# Altium footprint library 2.40-BGA封装.PcbLib: 20 footprints (part 1 of 2)
Each footprint in its own frame and in the unit in brackets; x right, y up, seen from the top. Pads: shape width x height; smd on the part's side, far side on the other; paste and mask are expansions set on the pad; w line width, h text height; cw(c..) or ccw(c..) is an arc to the next point about the centre after c.
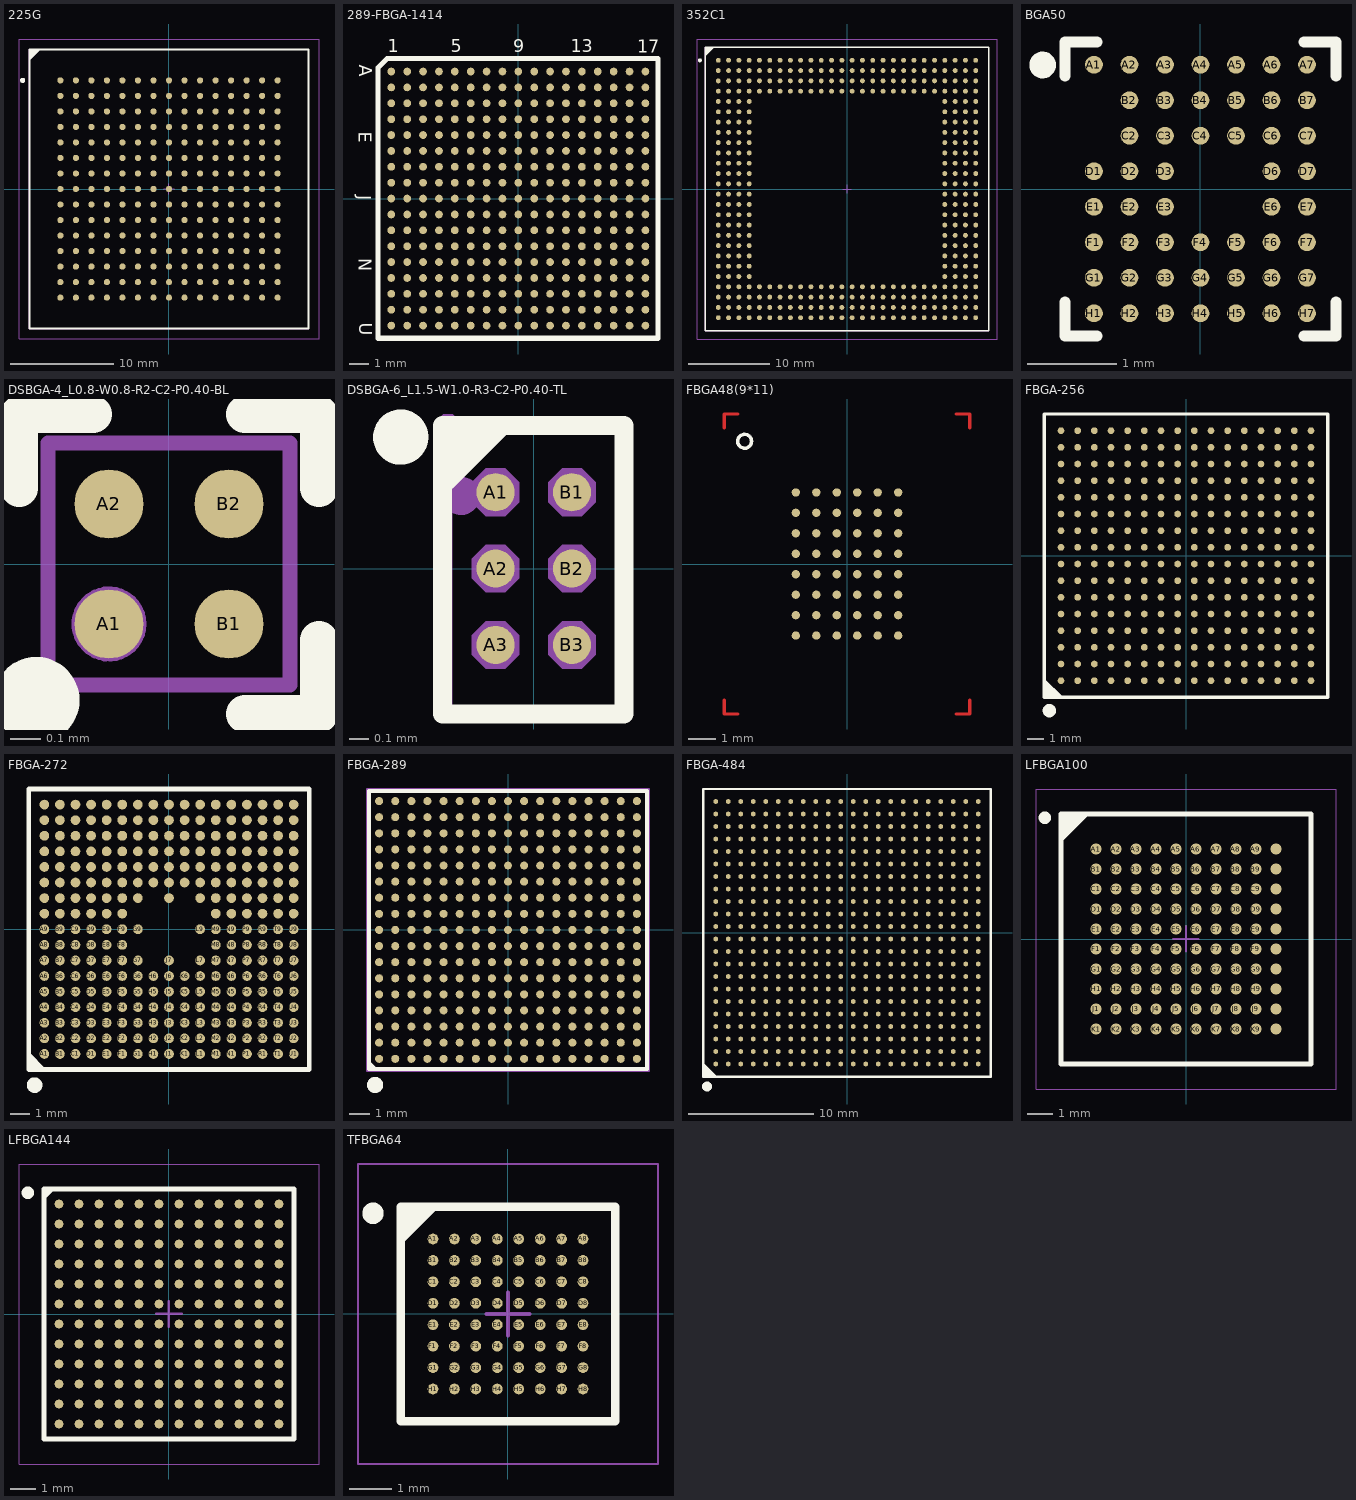
[diagram p0: the footprints below, top view; thin cyan lines are the x and y axes]

## 225G [mm] "225-Ball Ball Grid Array 1.5 mm Pitch"
height 1.53
pads (225):
  round 0.6 smd: A1(-10.5,10.5) A2(-9,10.5) A3(-7.5,10.5) A4(-6,10.5) A5(-4.5,10.5) A6(-3,10.5) A7(-1.5,10.5) A8(0,10.5) A9(1.5,10.5) A10(3,10.5) A11(4.5,10.5) A12(6,10.5) A13(7.5,10.5) A14(9,10.5) A15(10.5,10.5) B1(-10.5,9) B2(-9,9) B3(-7.5,9) B4(-6,9) B5(-4.5,9) B6(-3,9) B7(-1.5,9) B8(0,9) B9(1.5,9) B10(3,9) B11(4.5,9) B12(6,9) B13(7.5,9) B14(9,9) B15(10.5,9) C1(-10.5,7.5) C2(-9,7.5) C3(-7.5,7.5) C4(-6,7.5) C5(-4.5,7.5) C6(-3,7.5) C7(-1.5,7.5) C8(0,7.5) C9(1.5,7.5) C10(3,7.5) C11(4.5,7.5) C12(6,7.5) C13(7.5,7.5) C14(9,7.5) C15(10.5,7.5) D1(-10.5,6) D2(-9,6) D3(-7.5,6) D4(-6,6) D5(-4.5,6) D6(-3,6) D7(-1.5,6) D8(0,6) D9(1.5,6) D10(3,6) D11(4.5,6) D12(6,6) D13(7.5,6) D14(9,6) D15(10.5,6) E1(-10.5,4.5) E2(-9,4.5) E3(-7.5,4.5) E4(-6,4.5) E5(-4.5,4.5) E6(-3,4.5) E7(-1.5,4.5) E8(0,4.5) E9(1.5,4.5) E10(3,4.5) E11(4.5,4.5) E12(6,4.5) E13(7.5,4.5) E14(9,4.5) E15(10.5,4.5) F1(-10.5,3) F2(-9,3) F3(-7.5,3) F4(-6,3) F5(-4.5,3) F6(-3,3) F7(-1.5,3) F8(0,3) F9(1.5,3) F10(3,3) F11(4.5,3) F12(6,3) F13(7.5,3) F14(9,3) F15(10.5,3) G1(-10.5,1.5) G2(-9,1.5) G3(-7.5,1.5) G4(-6,1.5) G5(-4.5,1.5) G6(-3,1.5) G7(-1.5,1.5) G8(0,1.5) G9(1.5,1.5) G10(3,1.5) G11(4.5,1.5) G12(6,1.5) G13(7.5,1.5) G14(9,1.5) G15(10.5,1.5) H1(-10.5,0) H2(-9,0) H3(-7.5,0) H4(-6,0) H5(-4.5,0) H6(-3,0) H7(-1.5,0) H8(0,0) H9(1.5,0) H10(3,0) H11(4.5,0) H12(6,0) H13(7.5,0) H14(9,0) H15(10.5,0) J1(-10.5,-1.5) J2(-9,-1.5) J3(-7.5,-1.5) J4(-6,-1.5) J5(-4.5,-1.5) J6(-3,-1.5) J7(-1.5,-1.5) J8(0,-1.5) J9(1.5,-1.5) J10(3,-1.5) J11(4.5,-1.5) J12(6,-1.5) J13(7.5,-1.5) J14(9,-1.5) J15(10.5,-1.5) K1(-10.5,-3) K2(-9,-3) K3(-7.5,-3) K4(-6,-3) K5(-4.5,-3) K6(-3,-3) K7(-1.5,-3) K8(0,-3) K9(1.5,-3) K10(3,-3) K11(4.5,-3) K12(6,-3) K13(7.5,-3) K14(9,-3) K15(10.5,-3) L1(-10.5,-4.5) L2(-9,-4.5) L3(-7.5,-4.5) L4(-6,-4.5) L5(-4.5,-4.5) L6(-3,-4.5) L7(-1.5,-4.5) L8(0,-4.5) L9(1.5,-4.5) L10(3,-4.5) L11(4.5,-4.5) L12(6,-4.5) L13(7.5,-4.5) L14(9,-4.5) L15(10.5,-4.5) M1(-10.5,-6) M2(-9,-6) M3(-7.5,-6) M4(-6,-6) M5(-4.5,-6) M6(-3,-6) M7(-1.5,-6) M8(0,-6) M9(1.5,-6) M10(3,-6) M11(4.5,-6) M12(6,-6) M13(7.5,-6) M14(9,-6) M15(10.5,-6) N1(-10.5,-7.5) N2(-9,-7.5) N3(-7.5,-7.5) N4(-6,-7.5) N5(-4.5,-7.5) N6(-3,-7.5) N7(-1.5,-7.5) N8(0,-7.5) N9(1.5,-7.5) N10(3,-7.5) N11(4.5,-7.5) N12(6,-7.5) N13(7.5,-7.5) N14(9,-7.5) N15(10.5,-7.5) P1(-10.5,-9) P2(-9,-9) P3(-7.5,-9) P4(-6,-9) P5(-4.5,-9) P6(-3,-9) P7(-1.5,-9) P8(0,-9) P9(1.5,-9) P10(3,-9) P11(4.5,-9) P12(6,-9) P13(7.5,-9) P14(9,-9) P15(10.5,-9) R1(-10.5,-10.5) R2(-9,-10.5) R3(-7.5,-10.5) R4(-6,-10.5) R5(-4.5,-10.5) R6(-3,-10.5) R7(-1.5,-10.5) R8(0,-10.5) R9(1.5,-10.5) R10(3,-10.5) R11(4.5,-10.5) R12(6,-10.5) R13(7.5,-10.5) R14(9,-10.5) R15(10.5,-10.5)
Top Overlay:
  circle w0.25: c-14.15,10.5 r0.125
  region: -12.5,13.5 -13.5,12.5 -13.5,13.5
  lines w0.2: -13.5,12.5 -12.5,13.5 ; -13.5,-13.5 -13.5,13.5 13.5,13.5 13.5,-13.5 -13.5,-13.5
Mechanical 13:
  lines w0.1: -13.5,-13.5 -13.5,13.5 13.5,13.5 13.5,-13.5 -13.5,-13.5
Mechanical 15:
  lines w0.1: -0.5,0 0.5,0 ; 0,-0.5 0,0.5 ; -14.5,-14.5 -14.5,14.5 14.5,14.5 14.5,-14.5 -14.5,-14.5
3D body: height 1.53, standoff 0, extent -13.5,-13.5 13.5,13.5

## 289-FBGA-1414 [mm]
pads (289):
  round 0.39 smd: A1(-6.4,6.4) A2(-5.6,6.4) A3(-4.8,6.4) A4(-4,6.4) A5(-3.2,6.4) A6(-2.4,6.4) A7(-1.6,6.4) A8(-0.8,6.4) A9(0,6.4) A10(0.8,6.4) A11(1.6,6.4) A12(2.4,6.4) A13(3.2,6.4) A14(4,6.4) A15(4.8,6.4) A16(5.6,6.4) A17(6.4,6.4) B1(-6.4,5.6) B2(-5.6,5.6) B3(-4.8,5.6) B4(-4,5.6) B5(-3.2,5.6) B6(-2.4,5.6) B7(-1.6,5.6) B8(-0.8,5.6) B9(0,5.6) B10(0.8,5.6) B11(1.6,5.6) B12(2.4,5.6) B13(3.2,5.6) B14(4,5.6) B15(4.8,5.6) B16(5.6,5.6) B17(6.4,5.6) C1(-6.4,4.8) C2(-5.6,4.8) C3(-4.8,4.8) C4(-4,4.8) C5(-3.2,4.8) C6(-2.4,4.8) C7(-1.6,4.8) C8(-0.8,4.8) C9(0,4.8) C10(0.8,4.8) C11(1.6,4.8) C12(2.4,4.8) C13(3.2,4.8) C14(4,4.8) C15(4.8,4.8) C16(5.6,4.8) C17(6.4,4.8) D1(-6.4,4) D2(-5.6,4) D3(-4.8,4) D4(-4,4) D5(-3.2,4) D6(-2.4,4) D7(-1.6,4) D8(-0.8,4) D9(0,4) D10(0.8,4) D11(1.6,4) D12(2.4,4) D13(3.2,4) D14(4,4) D15(4.8,4) D16(5.6,4) D17(6.4,4) E1(-6.4,3.2) E2(-5.6,3.2) E3(-4.8,3.2) E4(-4,3.2) E5(-3.2,3.2) E6(-2.4,3.2) E7(-1.6,3.2) E8(-0.8,3.2) E9(0,3.2) E10(0.8,3.2) E11(1.6,3.2) E12(2.4,3.2) E13(3.2,3.2) E14(4,3.2) E15(4.8,3.2) E16(5.6,3.2) E17(6.4,3.2) F1(-6.4,2.4) F2(-5.6,2.4) F3(-4.8,2.4) F4(-4,2.4) F5(-3.2,2.4) F6(-2.4,2.4) F7(-1.6,2.4) F8(-0.8,2.4) F9(0,2.4) F10(0.8,2.4) F11(1.6,2.4) F12(2.4,2.4) F13(3.2,2.4) F14(4,2.4) F15(4.8,2.4) F16(5.6,2.4) F17(6.4,2.4) G1(-6.4,1.6) G2(-5.6,1.6) G3(-4.8,1.6) G4(-4,1.6) G5(-3.2,1.6) G6(-2.4,1.6) G7(-1.6,1.6) G8(-0.8,1.6) G9(0,1.6) G10(0.8,1.6) G11(1.6,1.6) G12(2.4,1.6) G13(3.2,1.6) G14(4,1.6) G15(4.8,1.6) G16(5.6,1.6) G17(6.4,1.6) H1(-6.4,0.8) H2(-5.6,0.8) H3(-4.8,0.8) H4(-4,0.8) H5(-3.2,0.8) H6(-2.4,0.8) H7(-1.6,0.8) H8(-0.8,0.8) H9(0,0.8) H10(0.8,0.8) H11(1.6,0.8) H12(2.4,0.8) H13(3.2,0.8) H14(4,0.8) H15(4.8,0.8) H16(5.6,0.8) H17(6.4,0.8) J1(-6.4,0) J2(-5.6,0) J3(-4.8,0) J4(-4,0) J5(-3.2,0) J6(-2.4,0) J7(-1.6,0) J8(-0.8,0) J9(0,0) J10(0.8,0) J11(1.6,0) J12(2.4,0) J13(3.2,0) J14(4,0) J15(4.8,0) J16(5.6,0) J17(6.4,0) K1(-6.4,-0.8) K2(-5.6,-0.8) K3(-4.8,-0.8) K4(-4,-0.8) K5(-3.2,-0.8) K6(-2.4,-0.8) K7(-1.6,-0.8) K8(-0.8,-0.8) K9(0,-0.8) K10(0.8,-0.8) K11(1.6,-0.8) K12(2.4,-0.8) K13(3.2,-0.8) K14(4,-0.8) K15(4.8,-0.8) K16(5.6,-0.8) K17(6.4,-0.8) L1(-6.4,-1.6) L2(-5.6,-1.6) L3(-4.8,-1.6) L4(-4,-1.6) L5(-3.2,-1.6) L6(-2.4,-1.6) L7(-1.6,-1.6) L8(-0.8,-1.6) L9(0,-1.6) L10(0.8,-1.6) L11(1.6,-1.6) L12(2.4,-1.6) L13(3.2,-1.6) L14(4,-1.6) L15(4.8,-1.6) L16(5.6,-1.6) L17(6.4,-1.6) M1(-6.4,-2.4) M2(-5.6,-2.4) M3(-4.8,-2.4) M4(-4,-2.4) M5(-3.2,-2.4) M6(-2.4,-2.4) M7(-1.6,-2.4) M8(-0.8,-2.4) M9(0,-2.4) M10(0.8,-2.4) M11(1.6,-2.4) M12(2.4,-2.4) M13(3.2,-2.4) M14(4,-2.4) M15(4.8,-2.4) M16(5.6,-2.4) M17(6.4,-2.4) N1(-6.4,-3.2) N2(-5.6,-3.2) N3(-4.8,-3.2) N4(-4,-3.2) N5(-3.2,-3.2) N6(-2.4,-3.2) N7(-1.6,-3.2) N8(-0.8,-3.2) N9(0,-3.2) N10(0.8,-3.2) N11(1.6,-3.2) N12(2.4,-3.2) N13(3.2,-3.2) N14(4,-3.2) N15(4.8,-3.2) N16(5.6,-3.2) N17(6.4,-3.2) P1(-6.4,-4) P2(-5.6,-4) P3(-4.8,-4) P4(-4,-4) P5(-3.2,-4) P6(-2.4,-4) P7(-1.6,-4) P8(-0.8,-4) P9(0,-4) P10(0.8,-4) P11(1.6,-4) P12(2.4,-4) P13(3.2,-4) P14(4,-4) P15(4.8,-4) P16(5.6,-4) P17(6.4,-4) R1(-6.4,-4.8) R2(-5.6,-4.8) R3(-4.8,-4.8) R4(-4,-4.8) R5(-3.2,-4.8) R6(-2.4,-4.8) R7(-1.6,-4.8) R8(-0.8,-4.8) R9(0,-4.8) R10(0.8,-4.8) R11(1.6,-4.8) R12(2.4,-4.8) R13(3.2,-4.8) R14(4,-4.8) R15(4.8,-4.8) R16(5.6,-4.8) R17(6.4,-4.8) T1(-6.4,-5.6) T2(-5.6,-5.6) T3(-4.8,-5.6) T4(-4,-5.6) T5(-3.2,-5.6) T6(-2.4,-5.6) T7(-1.6,-5.6) T8(-0.8,-5.6) T9(0,-5.6) T10(0.8,-5.6) T11(1.6,-5.6) T12(2.4,-5.6) T13(3.2,-5.6) T14(4,-5.6) T15(4.8,-5.6) T16(5.6,-5.6) T17(6.4,-5.6) U1(-6.4,-6.4) U2(-5.6,-6.4) U3(-4.8,-6.4) U4(-4,-6.4) U5(-3.2,-6.4) U6(-2.4,-6.4) U7(-1.6,-6.4) U8(-0.8,-6.4) U9(0,-6.4) U10(0.8,-6.4) U11(1.6,-6.4) U12(2.4,-6.4) U13(3.2,-6.4) U14(4,-6.4) U15(4.8,-6.4) U16(5.6,-6.4) U17(6.4,-6.4)
Top Overlay:
  lines w0.254: -7.062,6.324 -7.062,6.603 ; -6.452,7.06 -6.605,7.06 ; -7.062,6.603 -6.605,7.06 ; -7.062,6.603 -6.605,7.06 ; -7.062,6.603 -7.062,-7.037 7.035,-7.037 7.035,7.06 -6.605,7.06
  text "U" at -8.027,-6.249 h0.64
  text "N" at -8.053,-2.998 h0.64
  text "J" at -8.078,0.177 h0.64
  text "E" at -8.053,3.377 h0.64
  text "A" at -8.027,6.73 h0.64
  text "13" at 2.641,7.365 h0.64
  text "9" at -0.255,7.365 h0.64
  text "5" at -3.404,7.365 h0.64
  text "1" at -6.579,7.365 h0.64
  text "17" at 5.994,7.34 h0.64

## 352C1 [mm] "352-ball, 35 x 35, Enhanced, Low-profile Square Ball Grid Array Package (SBGA)"
height 1.7
pads (352):
  round 0.6 smd: A1(-15.875,15.875) A2(-14.605,15.875) A3(-13.335,15.875) A4(-12.065,15.875) A5(-10.795,15.875) A6(-9.525,15.875) A7(-8.255,15.875) A8(-6.985,15.875) A9(-5.715,15.875) A10(-4.445,15.875) A11(-3.175,15.875) A12(-1.905,15.875) A13(-0.635,15.875) A14(0.635,15.875) A15(1.905,15.875) A16(3.175,15.875) A17(4.445,15.875) A18(5.715,15.875) A19(6.985,15.875) A20(8.255,15.875) A21(9.525,15.875) A22(10.795,15.875) A23(12.065,15.875) A24(13.335,15.875) A25(14.605,15.875) A26(15.875,15.875) AA1(-15.875,-9.525) AA2(-14.605,-9.525) AA3(-13.335,-9.525) AA4(-12.065,-9.525) AA23(12.065,-9.525) AA24(13.335,-9.525) AA25(14.605,-9.525) AA26(15.875,-9.525) AB1(-15.875,-10.795) AB2(-14.605,-10.795) AB3(-13.335,-10.795) AB4(-12.065,-10.795) AB23(12.065,-10.795) AB24(13.335,-10.795) AB25(14.605,-10.795) AB26(15.875,-10.795) AC1(-15.875,-12.065) AC2(-14.605,-12.065) AC3(-13.335,-12.065) AC4(-12.065,-12.065) AC5(-10.795,-12.065) AC6(-9.525,-12.065) AC7(-8.255,-12.065) AC8(-6.985,-12.065) AC9(-5.715,-12.065) AC10(-4.445,-12.065) AC11(-3.175,-12.065) AC12(-1.905,-12.065) AC13(-0.635,-12.065) AC14(0.635,-12.065) AC15(1.905,-12.065) AC16(3.175,-12.065) AC17(4.445,-12.065) AC18(5.715,-12.065) AC19(6.985,-12.065) AC20(8.255,-12.065) AC21(9.525,-12.065) AC22(10.795,-12.065) AC23(12.065,-12.065) AC24(13.335,-12.065) AC25(14.605,-12.065) AC26(15.875,-12.065) AD1(-15.875,-13.335) AD2(-14.605,-13.335) AD3(-13.335,-13.335) AD4(-12.065,-13.335) AD5(-10.795,-13.335) AD6(-9.525,-13.335) AD7(-8.255,-13.335) AD8(-6.985,-13.335) AD9(-5.715,-13.335) AD10(-4.445,-13.335) AD11(-3.175,-13.335) AD12(-1.905,-13.335) AD13(-0.635,-13.335) AD14(0.635,-13.335) AD15(1.905,-13.335) AD16(3.175,-13.335) AD17(4.445,-13.335) AD18(5.715,-13.335) AD19(6.985,-13.335) AD20(8.255,-13.335) AD21(9.525,-13.335) AD22(10.795,-13.335) AD23(12.065,-13.335) AD24(13.335,-13.335) AD25(14.605,-13.335) AD26(15.875,-13.335) AE1(-15.875,-14.605) AE2(-14.605,-14.605) AE3(-13.335,-14.605) AE4(-12.065,-14.605) AE5(-10.795,-14.605) AE6(-9.525,-14.605) AE7(-8.255,-14.605) AE8(-6.985,-14.605) AE9(-5.715,-14.605) AE10(-4.445,-14.605) AE11(-3.175,-14.605) AE12(-1.905,-14.605) AE13(-0.635,-14.605) AE14(0.635,-14.605) AE15(1.905,-14.605) AE16(3.175,-14.605) AE17(4.445,-14.605) AE18(5.715,-14.605) AE19(6.985,-14.605) AE20(8.255,-14.605) AE21(9.525,-14.605) AE22(10.795,-14.605) AE23(12.065,-14.605) AE24(13.335,-14.605) AE25(14.605,-14.605) AE26(15.875,-14.605) AF1(-15.875,-15.875) AF2(-14.605,-15.875) AF3(-13.335,-15.875) AF4(-12.065,-15.875) AF5(-10.795,-15.875) AF6(-9.525,-15.875) AF7(-8.255,-15.875) AF8(-6.985,-15.875) AF9(-5.715,-15.875) AF10(-4.445,-15.875) AF11(-3.175,-15.875) AF12(-1.905,-15.875) AF13(-0.635,-15.875) AF14(0.635,-15.875) AF15(1.905,-15.875) AF16(3.175,-15.875) AF17(4.445,-15.875) AF18(5.715,-15.875) AF19(6.985,-15.875) AF20(8.255,-15.875) AF21(9.525,-15.875) AF22(10.795,-15.875) AF23(12.065,-15.875) AF24(13.335,-15.875) AF25(14.605,-15.875) AF26(15.875,-15.875) B1(-15.875,14.605) B2(-14.605,14.605) B3(-13.335,14.605) B4(-12.065,14.605) B5(-10.795,14.605) B6(-9.525,14.605) B7(-8.255,14.605) B8(-6.985,14.605) B9(-5.715,14.605) B10(-4.445,14.605) B11(-3.175,14.605) B12(-1.905,14.605) B13(-0.635,14.605) B14(0.635,14.605) B15(1.905,14.605) B16(3.175,14.605) B17(4.445,14.605) B18(5.715,14.605) B19(6.985,14.605) B20(8.255,14.605) B21(9.525,14.605) B22(10.795,14.605) B23(12.065,14.605) B24(13.335,14.605) B25(14.605,14.605) B26(15.875,14.605) C1(-15.875,13.335) C2(-14.605,13.335) C3(-13.335,13.335) C4(-12.065,13.335) C5(-10.795,13.335) C6(-9.525,13.335) C7(-8.255,13.335) C8(-6.985,13.335) C9(-5.715,13.335) C10(-4.445,13.335) C11(-3.175,13.335) C12(-1.905,13.335) C13(-0.635,13.335) C14(0.635,13.335) C15(1.905,13.335) C16(3.175,13.335) C17(4.445,13.335) C18(5.715,13.335) C19(6.985,13.335) C20(8.255,13.335) C21(9.525,13.335) C22(10.795,13.335) C23(12.065,13.335) C24(13.335,13.335) C25(14.605,13.335) C26(15.875,13.335) D1(-15.875,12.065) D2(-14.605,12.065) D3(-13.335,12.065) D4(-12.065,12.065) D5(-10.795,12.065) D6(-9.525,12.065) D7(-8.255,12.065) D8(-6.985,12.065) D9(-5.715,12.065) D10(-4.445,12.065) D11(-3.175,12.065) D12(-1.905,12.065) D13(-0.635,12.065) D14(0.635,12.065) D15(1.905,12.065) D16(3.175,12.065) D17(4.445,12.065) D18(5.715,12.065) D19(6.985,12.065) D20(8.255,12.065) D21(9.525,12.065) D22(10.795,12.065) D23(12.065,12.065) D24(13.335,12.065) D25(14.605,12.065) D26(15.875,12.065) E1(-15.875,10.795) E2(-14.605,10.795) E3(-13.335,10.795) E4(-12.065,10.795) E23(12.065,10.795) E24(13.335,10.795) E25(14.605,10.795) E26(15.875,10.795) F1(-15.875,9.525) F2(-14.605,9.525) F3(-13.335,9.525) F4(-12.065,9.525) F23(12.065,9.525) F24(13.335,9.525) F25(14.605,9.525) F26(15.875,9.525) G1(-15.875,8.255) G2(-14.605,8.255) G3(-13.335,8.255) G4(-12.065,8.255) G23(12.065,8.255) G24(13.335,8.255) G25(14.605,8.255) G26(15.875,8.255) H1(-15.875,6.985) H2(-14.605,6.985) H3(-13.335,6.985) H4(-12.065,6.985) H23(12.065,6.985) H24(13.335,6.985) H25(14.605,6.985) H26(15.875,6.985) J1(-15.875,5.715) J2(-14.605,5.715) J3(-13.335,5.715) J4(-12.065,5.715) J23(12.065,5.715) J24(13.335,5.715) J25(14.605,5.715) J26(15.875,5.715) K1(-15.875,4.445) K2(-14.605,4.445) K3(-13.335,4.445) K4(-12.065,4.445) K23(12.065,4.445) K24(13.335,4.445) K25(14.605,4.445) K26(15.875,4.445) L1(-15.875,3.175) L2(-14.605,3.175) L3(-13.335,3.175) L4(-12.065,3.175) L23(12.065,3.175) L24(13.335,3.175) L25(14.605,3.175) L26(15.875,3.175) M1(-15.875,1.905) M2(-14.605,1.905) M3(-13.335,1.905) M4(-12.065,1.905) M23(12.065,1.905) M24(13.335,1.905) M25(14.605,1.905) M26(15.875,1.905) N1(-15.875,0.635) N2(-14.605,0.635) N3(-13.335,0.635) N4(-12.065,0.635) N23(12.065,0.635) N24(13.335,0.635) N25(14.605,0.635) N26(15.875,0.635) P1(-15.875,-0.635) P2(-14.605,-0.635) P3(-13.335,-0.635) P4(-12.065,-0.635) P23(12.065,-0.635) P24(13.335,-0.635) P25(14.605,-0.635) P26(15.875,-0.635) R1(-15.875,-1.905) R2(-14.605,-1.905) R3(-13.335,-1.905) R4(-12.065,-1.905) R23(12.065,-1.905) R24(13.335,-1.905) R25(14.605,-1.905) R26(15.875,-1.905) T1(-15.875,-3.175) T2(-14.605,-3.175) T3(-13.335,-3.175) T4(-12.065,-3.175) T23(12.065,-3.175) T24(13.335,-3.175) T25(14.605,-3.175) T26(15.875,-3.175) U1(-15.875,-4.445) U2(-14.605,-4.445) U3(-13.335,-4.445) U4(-12.065,-4.445) U23(12.065,-4.445) U24(13.335,-4.445) U25(14.605,-4.445) U26(15.875,-4.445) V1(-15.875,-5.715) V2(-14.605,-5.715) V3(-13.335,-5.715) V4(-12.065,-5.715) V23(12.065,-5.715) V24(13.335,-5.715) V25(14.605,-5.715) V26(15.875,-5.715) W1(-15.875,-6.985) W2(-14.605,-6.985) W3(-13.335,-6.985) W4(-12.065,-6.985) W23(12.065,-6.985) W24(13.335,-6.985) W25(14.605,-6.985) W26(15.875,-6.985) Y1(-15.875,-8.255) Y2(-14.605,-8.255) Y3(-13.335,-8.255) Y4(-12.065,-8.255) Y23(12.065,-8.255) Y24(13.335,-8.255) Y25(14.605,-8.255) Y26(15.875,-8.255)
Top Overlay:
  circle w0.25: c-18.15,15.875 r0.125
  region: -16.5,17.5 -17.5,16.5 -17.5,17.5
  lines w0.2: -17.5,16.5 -16.5,17.5 ; -17.5,-17.5 -17.5,17.5 17.5,17.5 17.5,-17.5 -17.5,-17.5
Mechanical 13:
  lines w0.1: -17.5,-17.5 -17.5,17.5 17.5,17.5 17.5,-17.5 -17.5,-17.5
Mechanical 15:
  lines w0.1: -0.5,0 0.5,0 ; 0,-0.5 0,0.5 ; -18.5,-18.5 -18.5,18.5 18.5,18.5 18.5,-18.5 -18.5,-18.5
3D body: height 1.7, standoff 0, extent -17.5,-17.5 17.5,17.5

## BGA50 [mm] "N40P7X8_300X320X40"
pads (50):
  round 0.2 smd mask+0: A1(-1.2,1.4) A2(-0.8,1.4) A3(-0.4,1.4) A4(0,1.4) A5(0.4,1.4) A6(0.8,1.4) A7(1.2,1.4) B2(-0.8,1) B3(-0.4,1) B4(0,1) B5(0.4,1) B6(0.8,1) B7(1.2,1) C2(-0.8,0.6) C3(-0.4,0.6) C4(0,0.6) C5(0.4,0.6) C6(0.8,0.6) C7(1.2,0.6) D1(-1.2,0.2) D2(-0.8,0.2) D3(-0.4,0.2) D6(0.8,0.2) D7(1.2,0.2) E1(-1.2,-0.2) E2(-0.8,-0.2) E3(-0.4,-0.2) E6(0.8,-0.2) E7(1.2,-0.2) F1(-1.2,-0.6) F2(-0.8,-0.6) F3(-0.4,-0.6) F4(0,-0.6) F5(0.4,-0.6) F6(0.8,-0.6) F7(1.2,-0.6) G1(-1.2,-1) G2(-0.8,-1) G3(-0.4,-1) G4(0,-1) G5(0.4,-1) G6(0.8,-1) G7(1.2,-1) H1(-1.2,-1.4) H2(-0.8,-1.4) H3(-0.4,-1.4) H4(0,-1.4) H5(0.4,-1.4) H6(0.8,-1.4) H7(1.2,-1.4)
Top Overlay:
  circle w0.15: c-1.778,1.397 r0.075
  lines w0.127: -1.527,-1.274 -1.527,-1.655 -1.17,-1.655 ; -1.527,1.274 -1.527,1.655 -1.17,1.655 ; 1.17,-1.655 1.527,-1.655 1.527,-1.274 ; 1.17,1.655 1.527,1.655 1.527,1.274
Top Solder:
  circle w0: c-1.2,1.4 r0.17
  circle w0: c-0.8,1.4 r0.17
  circle w0: c-0.4,1.4 r0.17
  circle w0: c0,1.4 r0.17
  circle w0: c0.4,1.4 r0.17
  circle w0: c0.8,1.4 r0.17
  circle w0: c1.2,1.4 r0.17
  circle w0: c-1.2,-1.4 r0.17
  circle w0: c-0.8,-1.4 r0.17
  circle w0: c-0.4,-1.4 r0.17
  circle w0: c0,-1.4 r0.17
  circle w0: c0.4,-1.4 r0.17
  circle w0: c0.8,-1.4 r0.17
  circle w0: c1.2,-1.4 r0.17
  circle w0: c-1.2,-1 r0.17
  circle w0: c-0.8,-1 r0.17
  circle w0: c-0.4,-1 r0.17
  circle w0: c0,-1 r0.17
  circle w0: c0.4,-1 r0.17
  circle w0: c0.8,-1 r0.17
  circle w0: c1.2,-1 r0.17
  circle w0: c-1.2,-0.6 r0.17
  circle w0: c-0.8,-0.6 r0.17
  circle w0: c-0.4,-0.6 r0.17
  circle w0: c0,-0.6 r0.17
  circle w0: c0.4,-0.6 r0.17
  circle w0: c0.8,-0.6 r0.17
  circle w0: c1.2,-0.6 r0.17
  circle w0: c-1.2,-0.2 r0.17
  circle w0: c-0.8,-0.2 r0.17
  circle w0: c-0.4,-0.2 r0.17
  circle w0: c0.8,-0.2 r0.17
  circle w0: c1.2,-0.2 r0.17
  circle w0: c-1.2,0.2 r0.17
  circle w0: c-0.8,0.2 r0.17
  circle w0: c-0.4,0.2 r0.17
  circle w0: c0.8,0.2 r0.17
  circle w0: c1.2,0.2 r0.17
  circle w0: c-0.8,0.6 r0.17
  circle w0: c-0.4,0.6 r0.17
  circle w0: c0,0.6 r0.17
  circle w0: c0.4,0.6 r0.17
  circle w0: c0.8,0.6 r0.17
  circle w0: c1.2,0.6 r0.17
  circle w0: c-0.8,1 r0.17
  circle w0: c-0.4,1 r0.17
  circle w0: c0,1 r0.17
  circle w0: c0.4,1 r0.17
  circle w0: c0.8,1 r0.17
  circle w0: c1.2,1 r0.17
3D body "NRF52832-CIAA-R--3DModel-STEP-56544.STEP": height 0.4, standoff 0, extent -1.478,-1.613 1.478,1.613

## DSBGA-4_L0.8-W0.8-R2-C2-P0.40-BL [mm]
pads (4):
  round 0.23 smd paste-0.102 mask+0.038: A1(-0.2,-0.2) A2(-0.2,0.2) B1(0.2,-0.2) B2(0.2,0.2)
Top Overlay:
  circle w0.2: c-0.443,-0.454 r0.045
  lines w0.127: -0.5,0.254 -0.5,0.475 ; -0.5,0.5 -0.254,0.5 ; 0.254,-0.5 0.5,-0.5 ; 0.254,0.5 0.475,0.5 ; 0.5,-0.475 0.5,-0.254 ; 0.5,0.254 0.5,0.5
Top Paste:
  circle w0.05: c-0.275,0.275 r0.025
  circle w0.05: c-0.125,0.125 r0.025
  circle w0.05: c-0.275,0.125 r0.025
  circle w0.05: c-0.125,0.275 r0.025
  circle w0.05: c-0.125,-0.125 r0.025
  circle w0.05: c-0.275,-0.275 r0.025
  circle w0.05: c-0.125,-0.275 r0.025
  circle w0.05: c-0.275,-0.125 r0.025
  circle w0.05: c0.125,0.275 r0.025
  circle w0.05: c0.275,0.125 r0.025
  circle w0.05: c0.125,0.125 r0.025
  circle w0.05: c0.275,0.275 r0.025
  circle w0.05: c0.275,-0.125 r0.025
  circle w0.05: c0.125,-0.275 r0.025
  circle w0.05: c0.275,-0.275 r0.025
  circle w0.05: c0.125,-0.125 r0.025
  region: -0.125,0.125 -0.075,0.125 -0.075,0.275 -0.125,0.275
  region: -0.275,0.125 -0.275,0.075 -0.125,0.075 -0.125,0.125
  region: -0.275,0.275 -0.325,0.275 -0.325,0.125 -0.275,0.125
  region: -0.125,0.275 -0.125,0.325 -0.275,0.325 -0.275,0.275
  region: -0.275,0.275 -0.275,0.125 -0.125,0.125 -0.125,0.275
  region: -0.275,-0.125 -0.275,-0.275 -0.125,-0.275 -0.125,-0.125
  region: -0.125,-0.125 -0.125,-0.075 -0.275,-0.075 -0.275,-0.125
  region: -0.275,-0.125 -0.325,-0.125 -0.325,-0.275 -0.275,-0.275
  region: -0.275,-0.275 -0.275,-0.325 -0.125,-0.325 -0.125,-0.275
  region: -0.125,-0.275 -0.075,-0.275 -0.075,-0.125 -0.125,-0.125
  region: 0.275,0.125 0.325,0.125 0.325,0.275 0.275,0.275
  region: 0.125,0.125 0.125,0.075 0.275,0.075 0.275,0.125
  region: 0.125,0.275 0.075,0.275 0.075,0.125 0.125,0.125
  region: 0.275,0.275 0.275,0.325 0.125,0.325 0.125,0.275
  region: 0.125,0.275 0.125,0.125 0.275,0.125 0.275,0.275
  region: 0.125,-0.125 0.125,-0.275 0.275,-0.275 0.275,-0.125
  region: 0.275,-0.125 0.275,-0.075 0.125,-0.075 0.125,-0.125
  region: 0.125,-0.125 0.075,-0.125 0.075,-0.275 0.125,-0.275
  region: 0.125,-0.275 0.125,-0.325 0.275,-0.325 0.275,-0.275
  region: 0.275,-0.275 0.325,-0.275 0.325,-0.125 0.275,-0.125
Mechanical 13:
  circle w0.05: c-0.2,-0.2 r0.1
  lines w0.05: -0.403,-0.403 0.403,-0.403 0.403,0.403 -0.403,0.403 -0.403,-0.403
Mechanical 15:
  region: -0.34,-0.4 -0.34,-0.375 -0.375,-0.34 -0.425,-0.34 -0.46,-0.375 -0.46,-0.4 -0.46,-0.425 -0.425,-0.46 -0.375,-0.46 -0.34,-0.425 -0.34,-0.4
3D body "TPS22916BYFPR--3DModel-STEP-510211.STEP": height 0.47, standoff -0.03, extent -0.39,-0.39 0.39,0.39

## DSBGA-6_L1.5-W1.0-R3-C2-P0.40-TL [mm] "ST公司的I滤波产品通用封装"
pads (6):
  round 0.2 smd paste+0 mask+0.05: A1(-0.2,0.4) A2(-0.2,0) A3(-0.2,-0.4) B1(0.2,0.4) B2(0.2,0) B3(0.2,-0.4)
Top Overlay:
  circle w0.2: c-0.697,0.689 r0.045
  lines w0.1: -0.471,0.628 -0.348,0.75 ; -0.462,0.543 -0.255,0.75 -0.479,0.75 -0.479,-0.762 0.472,-0.762 0.472,0.75 -0.281,0.75 ; -0.459,0.456 -0.178,0.737
Mechanical 6:
  circle w0.1: c-0.381,0.381 r0.05
Mechanical 15:
  region: 0.325,-0.4 0.325,-0.348 0.252,-0.275 0.148,-0.275 0.075,-0.348 0.075,-0.4 0.075,-0.452 0.148,-0.525 0.252,-0.525 0.325,-0.452 0.325,-0.4
  region: -0.075,-0.4 -0.075,-0.348 -0.148,-0.275 -0.252,-0.275 -0.325,-0.348 -0.325,-0.4 -0.325,-0.452 -0.252,-0.525 -0.148,-0.525 -0.075,-0.452 -0.075,-0.4
  region: 0.325,0 0.325,0.052 0.252,0.125 0.148,0.125 0.075,0.052 0.075,0 0.075,-0.052 0.148,-0.125 0.252,-0.125 0.325,-0.052 0.325,0
  region: -0.075,0 -0.075,0.052 -0.148,0.125 -0.252,0.125 -0.325,0.052 -0.325,0 -0.325,-0.052 -0.252,-0.125 -0.148,-0.125 -0.075,-0.052 -0.075,0
  region: 0.325,0.4 0.325,0.452 0.252,0.525 0.148,0.525 0.075,0.452 0.075,0.4 0.075,0.348 0.148,0.275 0.252,0.275 0.325,0.348 0.325,0.4
  region: -0.075,0.4 -0.075,0.452 -0.148,0.525 -0.252,0.525 -0.325,0.452 -0.325,0.4 -0.325,0.348 -0.252,0.275 -0.148,0.275 -0.075,0.348 -0.075,0.4
  region: -0.39,0.75 -0.39,0.775 -0.425,0.81 -0.475,0.81 -0.51,0.775 -0.51,0.75 -0.51,0.725 -0.475,0.69 -0.425,0.69 -0.39,0.725 -0.39,0.75
  lines w0.051: -0.45,-0.75 0.45,-0.75 0.45,0.75 -0.45,0.75 -0.45,-0.75
3D body "3D_PCB1_2023-05-17111.step": height 0.47, standoff -0.02, extent -0.472,-0.743 0.478,0.745

## FBGA48(9*11) [mm] "https://shop463601444.taobao.com"
pads (48):
  round 0.305 smd: A1(-1.875,2.625) A2(-1.125,2.625) A3(-0.375,2.625) A4(0.375,2.625) A5(1.125,2.625) A6(1.875,2.625) B1(-1.875,1.875) B2(-1.125,1.875) B3(-0.375,1.875) B4(0.375,1.875) B5(1.125,1.875) B6(1.875,1.875) C1(-1.875,1.125) C2(-1.125,1.125) C3(-0.375,1.125) C4(0.375,1.125) C5(1.125,1.125) C6(1.875,1.125) D1(-1.875,0.375) D2(-1.125,0.375) D3(-0.375,0.375) D4(0.375,0.375) D5(1.125,0.375) D6(1.875,0.375) E1(-1.875,-0.375) E2(-1.125,-0.375) E3(-0.375,-0.375) E4(0.375,-0.375) E5(1.125,-0.375) E6(1.875,-0.375) F1(-1.875,-1.125) F2(-1.125,-1.125) F3(-0.375,-1.125) F4(0.375,-1.125) F5(1.125,-1.125) F6(1.875,-1.125) G1(-1.875,-1.875) G2(-1.125,-1.875) G3(-0.375,-1.875) G4(0.375,-1.875) G5(1.125,-1.875) G6(1.875,-1.875) H1(-1.875,-2.625) H2(-1.125,-2.625) H3(-0.375,-2.625) H4(0.375,-2.625) H5(1.125,-2.625) H6(1.875,-2.625)
Top Layer:
  lines w0.127: -4.5,-5 -4.5,-5.5 -4,-5.5 ; -4.5,5 -4.5,5.5 -4,5.5 ; 4,-5.5 4.5,-5.5 4.5,-5 ; 4,5.5 4.5,5.5 4.5,5
Top Overlay:
  circle w0.127: c-3.754,4.5 r0.254

## FBGA-256 [mm]
pads (256):
  round 0.4 smd mask+0.051: A1(-7.5,-7.5) A2(-7.5,-6.5) A3(-7.5,-5.5) A4(-7.5,-4.5) A5(-7.5,-3.5) A6(-7.5,-2.5) A7(-7.5,-1.5) A8(-7.5,-0.5) A9(-7.5,0.5) A10(-7.5,1.5) A11(-7.5,2.5) A12(-7.5,3.5) A13(-7.5,4.5) A14(-7.5,5.5) A15(-7.5,6.5) A16(-7.5,7.5) B1(-6.5,-7.5) B2(-6.5,-6.5) B3(-6.5,-5.5) B4(-6.5,-4.5) B5(-6.5,-3.5) B6(-6.5,-2.5) B7(-6.5,-1.5) B8(-6.5,-0.5) B9(-6.5,0.5) B10(-6.5,1.5) B11(-6.5,2.5) B12(-6.5,3.5) B13(-6.5,4.5) B14(-6.5,5.5) B15(-6.5,6.5) B16(-6.5,7.5) C1(-5.5,-7.5) C2(-5.5,-6.5) C3(-5.5,-5.5) C4(-5.5,-4.5) C5(-5.5,-3.5) C6(-5.5,-2.5) C7(-5.5,-1.5) C8(-5.5,-0.5) C9(-5.5,0.5) C10(-5.5,1.5) C11(-5.5,2.5) C12(-5.5,3.5) C13(-5.5,4.5) C14(-5.5,5.5) C15(-5.5,6.5) C16(-5.5,7.5) D1(-4.5,-7.5) D2(-4.5,-6.5) D3(-4.5,-5.5) D4(-4.5,-4.5) D5(-4.5,-3.5) D6(-4.5,-2.5) D7(-4.5,-1.5) D8(-4.5,-0.5) D9(-4.5,0.5) D10(-4.5,1.5) D11(-4.5,2.5) D12(-4.5,3.5) D13(-4.5,4.5) D14(-4.5,5.5) D15(-4.5,6.5) D16(-4.5,7.5) E1(-3.5,-7.5) E2(-3.5,-6.5) E3(-3.5,-5.5) E4(-3.5,-4.5) E5(-3.5,-3.5) E6(-3.5,-2.5) E7(-3.5,-1.5) E8(-3.5,-0.5) E9(-3.5,0.5) E10(-3.5,1.5) E11(-3.5,2.5) E12(-3.5,3.5) E13(-3.5,4.5) E14(-3.5,5.5) E15(-3.5,6.5) E16(-3.5,7.5) F1(-2.5,-7.5) F2(-2.5,-6.5) F3(-2.5,-5.5) F4(-2.5,-4.5) F5(-2.5,-3.5) F6(-2.5,-2.5) F7(-2.5,-1.5) F8(-2.5,-0.5) F9(-2.5,0.5) F10(-2.5,1.5) F11(-2.5,2.5) F12(-2.5,3.5) F13(-2.5,4.5) F14(-2.5,5.5) F15(-2.5,6.5) F16(-2.5,7.5) G1(-1.5,-7.5) G2(-1.5,-6.5) G3(-1.5,-5.5) G4(-1.5,-4.5) G5(-1.5,-3.5) G6(-1.5,-2.5) G7(-1.5,-1.5) G8(-1.5,-0.5) G9(-1.5,0.5) G10(-1.5,1.5) G11(-1.5,2.5) G12(-1.5,3.5) G13(-1.5,4.5) G14(-1.5,5.5) G15(-1.5,6.5) G16(-1.5,7.5) H1(-0.5,-7.5) H2(-0.5,-6.5) H3(-0.5,-5.5) H4(-0.5,-4.5) H5(-0.5,-3.5) H6(-0.5,-2.5) H7(-0.5,-1.5) H8(-0.5,-0.5) H9(-0.5,0.5) H10(-0.5,1.5) H11(-0.5,2.5) H12(-0.5,3.5) H13(-0.5,4.5) H14(-0.5,5.5) H15(-0.5,6.5) H16(-0.5,7.5) J1(0.5,-7.5) J2(0.5,-6.5) J3(0.5,-5.5) J4(0.5,-4.5) J5(0.5,-3.5) J6(0.5,-2.5) J7(0.5,-1.5) J8(0.5,-0.5) J9(0.5,0.5) J10(0.5,1.5) J11(0.5,2.5) J12(0.5,3.5) J13(0.5,4.5) J14(0.5,5.5) J15(0.5,6.5) J16(0.5,7.5) K1(1.5,-7.5) K2(1.5,-6.5) K3(1.5,-5.5) K4(1.5,-4.5) K5(1.5,-3.5) K6(1.5,-2.5) K7(1.5,-1.5) K8(1.5,-0.5) K9(1.5,0.5) K10(1.5,1.5) K11(1.5,2.5) K12(1.5,3.5) K13(1.5,4.5) K14(1.5,5.5) K15(1.5,6.5) K16(1.5,7.5) L1(2.5,-7.5) L2(2.5,-6.5) L3(2.5,-5.5) L4(2.5,-4.5) L5(2.5,-3.5) L6(2.5,-2.5) L7(2.5,-1.5) L8(2.5,-0.5) L9(2.5,0.5) L10(2.5,1.5) L11(2.5,2.5) L12(2.5,3.5) L13(2.5,4.5) L14(2.5,5.5) L15(2.5,6.5) L16(2.5,7.5) M1(3.5,-7.5) M2(3.5,-6.5) M3(3.5,-5.5) M4(3.5,-4.5) M5(3.5,-3.5) M6(3.5,-2.5) M7(3.5,-1.5) M8(3.5,-0.5) M9(3.5,0.5) M10(3.5,1.5) M11(3.5,2.5) M12(3.5,3.5) M13(3.5,4.5) M14(3.5,5.5) M15(3.5,6.5) M16(3.5,7.5) N1(4.5,-7.5) N2(4.5,-6.5) N3(4.5,-5.5) N4(4.5,-4.5) N5(4.5,-3.5) N6(4.5,-2.5) N7(4.5,-1.5) N8(4.5,-0.5) N9(4.5,0.5) N10(4.5,1.5) N11(4.5,2.5) N12(4.5,3.5) N13(4.5,4.5) N14(4.5,5.5) N15(4.5,6.5) N16(4.5,7.5) P1(5.5,-7.5) P2(5.5,-6.5) P3(5.5,-5.5) P4(5.5,-4.5) P5(5.5,-3.5) P6(5.5,-2.5) P7(5.5,-1.5) P8(5.5,-0.5) P9(5.5,0.5) P10(5.5,1.5) P11(5.5,2.5) P12(5.5,3.5) P13(5.5,4.5) P14(5.5,5.5) P15(5.5,6.5) P16(5.5,7.5) R1(6.5,-7.5) R2(6.5,-6.5) R3(6.5,-5.5) R4(6.5,-4.5) R5(6.5,-3.5) R6(6.5,-2.5) R7(6.5,-1.5) R8(6.5,-0.5) R9(6.5,0.5) R10(6.5,1.5) R11(6.5,2.5) R12(6.5,3.5) R13(6.5,4.5) R14(6.5,5.5) R15(6.5,6.5) R16(6.5,7.5) T1(7.5,-7.5) T2(7.5,-6.5) T3(7.5,-5.5) T4(7.5,-4.5) T5(7.5,-3.5) T6(7.5,-2.5) T7(7.5,-1.5) T8(7.5,-0.5) T9(7.5,0.5) T10(7.5,1.5) T11(7.5,2.5) T12(7.5,3.5) T13(7.5,4.5) T14(7.5,5.5) T15(7.5,6.5) T16(7.5,7.5)
Top Overlay:
  circle w0.4: c-8.2,-9.3 r0.2
  region: -8.5,-7.5 -7.5,-8.5 -8.5,-8.5
  lines w0.2: -8.5,-7.5 -7.5,-8.5 ; -8.5,-8.5 8.5,-8.5 8.5,8.5 -8.5,8.5 -8.5,-8.5
Mechanical 13:
  lines w0.1: -8.5,-8.5 8.5,-8.5 8.5,8.5 -8.5,8.5 -8.5,-8.5

## FBGA-272 [mm]
pads (272):
  round 0.5 smd mask+0.051: A1(-6.4,-6.4) A2(-6.4,-5.6) A3(-6.4,-4.8) A4(-6.4,-4) A5(-6.4,-3.2) A6(-6.4,-2.4) A7(-6.4,-1.6) A8(-6.4,-0.8) A9(-6.4,0) A10(-6.4,0.8) A11(-6.4,1.6) A12(-6.4,2.4) A13(-6.4,3.2) A14(-6.4,4) A15(-6.4,4.8) A16(-6.4,5.6) A17(-6.4,6.4) B1(-5.6,-6.4) B2(-5.6,-5.6) B3(-5.6,-4.8) B4(-5.6,-4) B5(-5.6,-3.2) B6(-5.6,-2.4) B7(-5.6,-1.6) B8(-5.6,-0.8) B9(-5.6,0) B10(-5.6,0.8) B11(-5.6,1.6) B12(-5.6,2.4) B13(-5.6,3.2) B14(-5.6,4) B15(-5.6,4.8) B16(-5.6,5.6) B17(-5.6,6.4) C1(-4.8,-6.4) C2(-4.8,-5.6) C3(-4.8,-4.8) C4(-4.8,-4) C5(-4.8,-3.2) C6(-4.8,-2.4) C7(-4.8,-1.6) C8(-4.8,-0.8) C9(-4.8,0) C10(-4.8,0.8) C11(-4.8,1.6) C12(-4.8,2.4) C13(-4.8,3.2) C14(-4.8,4) C15(-4.8,4.8) C16(-4.8,5.6) C17(-4.8,6.4) D1(-4,-6.4) D2(-4,-5.6) D3(-4,-4.8) D4(-4,-4) D5(-4,-3.2) D6(-4,-2.4) D7(-4,-1.6) D8(-4,-0.8) D9(-4,0) D10(-4,0.8) D11(-4,1.6) D12(-4,2.4) D13(-4,3.2) D14(-4,4) D15(-4,4.8) D16(-4,5.6) D17(-4,6.4) E1(-3.2,-6.4) E2(-3.2,-5.6) E3(-3.2,-4.8) E4(-3.2,-4) E5(-3.2,-3.2) E6(-3.2,-2.4) E7(-3.2,-1.6) E8(-3.2,-0.8) E9(-3.2,0) E10(-3.2,0.8) E11(-3.2,1.6) E12(-3.2,2.4) E13(-3.2,3.2) E14(-3.2,4) E15(-3.2,4.8) E16(-3.2,5.6) E17(-3.2,6.4) F1(-2.4,-6.4) F2(-2.4,-5.6) F3(-2.4,-4.8) F4(-2.4,-4) F5(-2.4,-3.2) F6(-2.4,-2.4) F7(-2.4,-1.6) F8(-2.4,-0.8) F9(-2.4,0) F10(-2.4,0.8) F11(-2.4,1.6) F12(-2.4,2.4) F13(-2.4,3.2) F14(-2.4,4) F15(-2.4,4.8) F16(-2.4,5.6) F17(-2.4,6.4) G1(-1.6,-6.4) G2(-1.6,-5.6) G3(-1.6,-4.8) G4(-1.6,-4) G5(-1.6,-3.2) G6(-1.6,-2.4) G7(-1.6,-1.6) G9(-1.6,0) G11(-1.6,1.6) G12(-1.6,2.4) G13(-1.6,3.2) G14(-1.6,4) G15(-1.6,4.8) G16(-1.6,5.6) G17(-1.6,6.4) H1(-0.8,-6.4) H2(-0.8,-5.6) H3(-0.8,-4.8) H4(-0.8,-4) H5(-0.8,-3.2) H6(-0.8,-2.4) H12(-0.8,2.4) H13(-0.8,3.2) H14(-0.8,4) H15(-0.8,4.8) H16(-0.8,5.6) H17(-0.8,6.4) J1(0,-6.4) J2(0,-5.6) J3(0,-4.8) J4(0,-4) J5(0,-3.2) J6(0,-2.4) J7(0,-1.6) J11(0,1.6) J12(0,2.4) J13(0,3.2) J14(0,4) J15(0,4.8) J16(0,5.6) J17(0,6.4) K1(0.8,-6.4) K2(0.8,-5.6) K3(0.8,-4.8) K4(0.8,-4) K5(0.8,-3.2) K6(0.8,-2.4) K12(0.8,2.4) K13(0.8,3.2) K14(0.8,4) K15(0.8,4.8) K16(0.8,5.6) K17(0.8,6.4) L1(1.6,-6.4) L2(1.6,-5.6) L3(1.6,-4.8) L4(1.6,-4) L5(1.6,-3.2) L6(1.6,-2.4) L7(1.6,-1.6) L9(1.6,0) L11(1.6,1.6) L12(1.6,2.4) L13(1.6,3.2) L14(1.6,4) L15(1.6,4.8) L16(1.6,5.6) L17(1.6,6.4) M1(2.4,-6.4) M2(2.4,-5.6) M3(2.4,-4.8) M4(2.4,-4) M5(2.4,-3.2) M6(2.4,-2.4) M7(2.4,-1.6) M8(2.4,-0.8) M9(2.4,0) M10(2.4,0.8) M11(2.4,1.6) M12(2.4,2.4) M13(2.4,3.2) M14(2.4,4) M15(2.4,4.8) M16(2.4,5.6) M17(2.4,6.4) N1(3.2,-6.4) N2(3.2,-5.6) N3(3.2,-4.8) N4(3.2,-4) N5(3.2,-3.2) N6(3.2,-2.4) N7(3.2,-1.6) N8(3.2,-0.8) N9(3.2,0) N10(3.2,0.8) N11(3.2,1.6) N12(3.2,2.4) N13(3.2,3.2) N14(3.2,4) N15(3.2,4.8) N16(3.2,5.6) N17(3.2,6.4) P1(4,-6.4) P2(4,-5.6) P3(4,-4.8) P4(4,-4) P5(4,-3.2) P6(4,-2.4) P7(4,-1.6) P8(4,-0.8) P9(4,0) P10(4,0.8) P11(4,1.6) P12(4,2.4) P13(4,3.2) P14(4,4) P15(4,4.8) P16(4,5.6) P17(4,6.4) R1(4.8,-6.4) R2(4.8,-5.6) R3(4.8,-4.8) R4(4.8,-4) R5(4.8,-3.2) R6(4.8,-2.4) R7(4.8,-1.6) R8(4.8,-0.8) R9(4.8,0) R10(4.8,0.8) R11(4.8,1.6) R12(4.8,2.4) R13(4.8,3.2) R14(4.8,4) R15(4.8,4.8) R16(4.8,5.6) R17(4.8,6.4) T1(5.6,-6.4) T2(5.6,-5.6) T3(5.6,-4.8) T4(5.6,-4) T5(5.6,-3.2) T6(5.6,-2.4) T7(5.6,-1.6) T8(5.6,-0.8) T9(5.6,0) T10(5.6,0.8) T11(5.6,1.6) T12(5.6,2.4) T13(5.6,3.2) T14(5.6,4) T15(5.6,4.8) T16(5.6,5.6) T17(5.6,6.4) U1(6.4,-6.4) U2(6.4,-5.6) U3(6.4,-4.8) U4(6.4,-4) U5(6.4,-3.2) U6(6.4,-2.4) U7(6.4,-1.6) U8(6.4,-0.8) U9(6.4,0) U10(6.4,0.8) U11(6.4,1.6) U12(6.4,2.4) U13(6.4,3.2) U14(6.4,4) U15(6.4,4.8) U16(6.4,5.6) U17(6.4,6.4)
Top Overlay:
  circle w0.4: c-6.899,-7.999 r0.2
  region: -7.199,-7.2 -6.399,-7.2 -6.399,-7.1 -7.099,-6.4 -7.199,-6.4 -7.199,-7.199 -6.599,-7.2
  lines w0.254: -7.199,-7.2 7.2,-7.2 7.2,7.2 -7.2,7.2 -7.2,-7.199

## FBGA-289 [mm]
pads (289):
  round 0.4 smd mask+0.051: A1(-6.4,-6.4) A2(-6.4,-5.6) A3(-6.4,-4.8) A4(-6.4,-4) A5(-6.4,-3.2) A6(-6.4,-2.4) A7(-6.4,-1.6) A8(-6.4,-0.8) A9(-6.4,0) A10(-6.4,0.8) A11(-6.4,1.6) A12(-6.4,2.4) A13(-6.4,3.2) A14(-6.4,4) A15(-6.4,4.8) A16(-6.4,5.6) A17(-6.4,6.4) B1(-5.6,-6.4) B2(-5.6,-5.6) B3(-5.6,-4.8) B4(-5.6,-4) B5(-5.6,-3.2) B6(-5.6,-2.4) B7(-5.6,-1.6) B8(-5.6,-0.8) B9(-5.6,0) B10(-5.6,0.8) B11(-5.6,1.6) B12(-5.6,2.4) B13(-5.6,3.2) B14(-5.6,4) B15(-5.6,4.8) B16(-5.6,5.6) B17(-5.6,6.4) C1(-4.8,-6.4) C2(-4.8,-5.6) C3(-4.8,-4.8) C4(-4.8,-4) C5(-4.8,-3.2) C6(-4.8,-2.4) C7(-4.8,-1.6) C8(-4.8,-0.8) C9(-4.8,0) C10(-4.8,0.8) C11(-4.8,1.6) C12(-4.8,2.4) C13(-4.8,3.2) C14(-4.8,4) C15(-4.8,4.8) C16(-4.8,5.6) C17(-4.8,6.4) D1(-4,-6.4) D2(-4,-5.6) D3(-4,-4.8) D4(-4,-4) D5(-4,-3.2) D6(-4,-2.4) D7(-4,-1.6) D8(-4,-0.8) D9(-4,0) D10(-4,0.8) D11(-4,1.6) D12(-4,2.4) D13(-4,3.2) D14(-4,4) D15(-4,4.8) D16(-4,5.6) D17(-4,6.4) E1(-3.2,-6.4) E2(-3.2,-5.6) E3(-3.2,-4.8) E4(-3.2,-4) E5(-3.2,-3.2) E6(-3.2,-2.4) E7(-3.2,-1.6) E8(-3.2,-0.8) E9(-3.2,0) E10(-3.2,0.8) E11(-3.2,1.6) E12(-3.2,2.4) E13(-3.2,3.2) E14(-3.2,4) E15(-3.2,4.8) E16(-3.2,5.6) E17(-3.2,6.4) F1(-2.4,-6.4) F2(-2.4,-5.6) F3(-2.4,-4.8) F4(-2.4,-4) F5(-2.4,-3.2) F6(-2.4,-2.4) F7(-2.4,-1.6) F8(-2.4,-0.8) F9(-2.4,0) F10(-2.4,0.8) F11(-2.4,1.6) F12(-2.4,2.4) F13(-2.4,3.2) F14(-2.4,4) F15(-2.4,4.8) F16(-2.4,5.6) F17(-2.4,6.4) G1(-1.6,-6.4) G2(-1.6,-5.6) G3(-1.6,-4.8) G4(-1.6,-4) G5(-1.6,-3.2) G6(-1.6,-2.4) G7(-1.6,-1.6) G8(-1.6,-0.8) G9(-1.6,0) G10(-1.6,0.8) G11(-1.6,1.6) G12(-1.6,2.4) G13(-1.6,3.2) G14(-1.6,4) G15(-1.6,4.8) G16(-1.6,5.6) G17(-1.6,6.4) H1(-0.8,-6.4) H2(-0.8,-5.6) H3(-0.8,-4.8) H4(-0.8,-4) H5(-0.8,-3.2) H6(-0.8,-2.4) H7(-0.8,-1.6) H8(-0.8,-0.8) H9(-0.8,0) H10(-0.8,0.8) H11(-0.8,1.6) H12(-0.8,2.4) H13(-0.8,3.2) H14(-0.8,4) H15(-0.8,4.8) H16(-0.8,5.6) H17(-0.8,6.4) J1(0,-6.4) J2(0,-5.6) J3(0,-4.8) J4(0,-4) J5(0,-3.2) J6(0,-2.4) J7(0,-1.6) J8(0,-0.8) J9(0,0) J10(0,0.8) J11(0,1.6) J12(0,2.4) J13(0,3.2) J14(0,4) J15(0,4.8) J16(0,5.6) J17(0,6.4) K1(0.8,-6.4) K2(0.8,-5.6) K3(0.8,-4.8) K4(0.8,-4) K5(0.8,-3.2) K6(0.8,-2.4) K7(0.8,-1.6) K8(0.8,-0.8) K9(0.8,0) K10(0.8,0.8) K11(0.8,1.6) K12(0.8,2.4) K13(0.8,3.2) K14(0.8,4) K15(0.8,4.8) K16(0.8,5.6) K17(0.8,6.4) L1(1.6,-6.4) L2(1.6,-5.6) L3(1.6,-4.8) L4(1.6,-4) L5(1.6,-3.2) L6(1.6,-2.4) L7(1.6,-1.6) L8(1.6,-0.8) L9(1.6,0) L10(1.6,0.8) L11(1.6,1.6) L12(1.6,2.4) L13(1.6,3.2) L14(1.6,4) L15(1.6,4.8) L16(1.6,5.6) L17(1.6,6.4) M1(2.4,-6.4) M2(2.4,-5.6) M3(2.4,-4.8) M4(2.4,-4) M5(2.4,-3.2) M6(2.4,-2.4) M7(2.4,-1.6) M8(2.4,-0.8) M9(2.4,0) M10(2.4,0.8) M11(2.4,1.6) M12(2.4,2.4) M13(2.4,3.2) M14(2.4,4) M15(2.4,4.8) M16(2.4,5.6) M17(2.4,6.4) N1(3.2,-6.4) N2(3.2,-5.6) N3(3.2,-4.8) N4(3.2,-4) N5(3.2,-3.2) N6(3.2,-2.4) N7(3.2,-1.6) N8(3.2,-0.8) N9(3.2,0) N10(3.2,0.8) N11(3.2,1.6) N12(3.2,2.4) N13(3.2,3.2) N14(3.2,4) N15(3.2,4.8) N16(3.2,5.6) N17(3.2,6.4) P1(4,-6.4) P2(4,-5.6) P3(4,-4.8) P4(4,-4) P5(4,-3.2) P6(4,-2.4) P7(4,-1.6) P8(4,-0.8) P9(4,0) P10(4,0.8) P11(4,1.6) P12(4,2.4) P13(4,3.2) P14(4,4) P15(4,4.8) P16(4,5.6) P17(4,6.4) R1(4.8,-6.4) R2(4.8,-5.6) R3(4.8,-4.8) R4(4.8,-4) R5(4.8,-3.2) R6(4.8,-2.4) R7(4.8,-1.6) R8(4.8,-0.8) R9(4.8,0) R10(4.8,0.8) R11(4.8,1.6) R12(4.8,2.4) R13(4.8,3.2) R14(4.8,4) R15(4.8,4.8) R16(4.8,5.6) R17(4.8,6.4) T1(5.6,-6.4) T2(5.6,-5.6) T3(5.6,-4.8) T4(5.6,-4) T5(5.6,-3.2) T6(5.6,-2.4) T7(5.6,-1.6) T8(5.6,-0.8) T9(5.6,0) T10(5.6,0.8) T11(5.6,1.6) T12(5.6,2.4) T13(5.6,3.2) T14(5.6,4) T15(5.6,4.8) T16(5.6,5.6) T17(5.6,6.4) U1(6.4,-6.4) U2(6.4,-5.6) U3(6.4,-4.8) U4(6.4,-4) U5(6.4,-3.2) U6(6.4,-2.4) U7(6.4,-1.6) U8(6.4,-0.8) U9(6.4,0) U10(6.4,0.8) U11(6.4,1.6) U12(6.4,2.4) U13(6.4,3.2) U14(6.4,4) U15(6.4,4.8) U16(6.4,5.6) U17(6.4,6.4)
Top Overlay:
  circle w0.4: c-6.6,-7.7 r0.2
  lines w0.2: -6.9,-6.6 -6.6,-6.9 ; -6.9,-6.9 -6.9,6.9 6.9,6.9 6.9,-6.9 -6.9,-6.9
Mechanical 13:
  lines w0.1: -7,-7 -7,7 7,7 7,-7 -7,-7

## FBGA-484 [mm]
pads (484):
  round 0.38 smd mask+0.051: A1(-10.5,-10.5) A2(-10.5,-9.5) A3(-10.5,-8.5) A4(-10.5,-7.5) A5(-10.5,-6.5) A6(-10.5,-5.5) A7(-10.5,-4.5) A8(-10.5,-3.5) A9(-10.5,-2.5) A10(-10.5,-1.5) A11(-10.5,-0.5) A12(-10.5,0.5) A13(-10.5,1.5) A14(-10.5,2.5) A15(-10.5,3.5) A16(-10.5,4.5) A17(-10.5,5.5) A18(-10.5,6.5) A19(-10.5,7.5) A20(-10.5,8.5) A21(-10.5,9.5) A22(-10.5,10.5) AA1(9.5,-10.5) AA2(9.5,-9.5) AA3(9.5,-8.5) AA4(9.5,-7.5) AA5(9.5,-6.5) AA6(9.5,-5.5) AA7(9.5,-4.5) AA8(9.5,-3.5) AA9(9.5,-2.5) AA10(9.5,-1.5) AA11(9.5,-0.5) AA12(9.5,0.5) AA13(9.5,1.5) AA14(9.5,2.5) AA15(9.5,3.5) AA16(9.5,4.5) AA17(9.5,5.5) AA18(9.5,6.5) AA19(9.5,7.5) AA20(9.5,8.5) AA21(9.5,9.5) AA22(9.5,10.5) AB1(10.5,-10.5) AB2(10.5,-9.5) AB3(10.5,-8.5) AB4(10.5,-7.5) AB5(10.5,-6.5) AB6(10.5,-5.5) AB7(10.5,-4.5) AB8(10.5,-3.5) AB9(10.5,-2.5) AB10(10.5,-1.5) AB11(10.5,-0.5) AB12(10.5,0.5) AB13(10.5,1.5) AB14(10.5,2.5) AB15(10.5,3.5) AB16(10.5,4.5) AB17(10.5,5.5) AB18(10.5,6.5) AB19(10.5,7.5) AB20(10.5,8.5) AB21(10.5,9.5) AB22(10.5,10.5) B1(-9.5,-10.5) B2(-9.5,-9.5) B3(-9.5,-8.5) B4(-9.5,-7.5) B5(-9.5,-6.5) B6(-9.5,-5.5) B7(-9.5,-4.5) B8(-9.5,-3.5) B9(-9.5,-2.5) B10(-9.5,-1.5) B11(-9.5,-0.5) B12(-9.5,0.5) B13(-9.5,1.5) B14(-9.5,2.5) B15(-9.5,3.5) B16(-9.5,4.5) B17(-9.5,5.5) B18(-9.5,6.5) B19(-9.5,7.5) B20(-9.5,8.5) B21(-9.5,9.5) B22(-9.5,10.5) C1(-8.5,-10.5) C2(-8.5,-9.5) C3(-8.5,-8.5) C4(-8.5,-7.5) C5(-8.5,-6.5) C6(-8.5,-5.5) C7(-8.5,-4.5) C8(-8.5,-3.5) C9(-8.5,-2.5) C10(-8.5,-1.5) C11(-8.5,-0.5) C12(-8.5,0.5) C13(-8.5,1.5) C14(-8.5,2.5) C15(-8.5,3.5) C16(-8.5,4.5) C17(-8.5,5.5) C18(-8.5,6.5) C19(-8.5,7.5) C20(-8.5,8.5) C21(-8.5,9.5) C22(-8.5,10.5) D1(-7.5,-10.5) D2(-7.5,-9.5) D3(-7.5,-8.5) D4(-7.5,-7.5) D5(-7.5,-6.5) D6(-7.5,-5.5) D7(-7.5,-4.5) D8(-7.5,-3.5) D9(-7.5,-2.5) D10(-7.5,-1.5) D11(-7.5,-0.5) D12(-7.5,0.5) D13(-7.5,1.5) D14(-7.5,2.5) D15(-7.5,3.5) D16(-7.5,4.5) D17(-7.5,5.5) D18(-7.5,6.5) D19(-7.5,7.5) D20(-7.5,8.5) D21(-7.5,9.5) D22(-7.5,10.5) E1(-6.5,-10.5) E2(-6.5,-9.5) E3(-6.5,-8.5) E4(-6.5,-7.5) E5(-6.5,-6.5) E6(-6.5,-5.5) E7(-6.5,-4.5) E8(-6.5,-3.5) E9(-6.5,-2.5) E10(-6.5,-1.5) E11(-6.5,-0.5) E12(-6.5,0.5) E13(-6.5,1.5) E14(-6.5,2.5) E15(-6.5,3.5) E16(-6.5,4.5) E17(-6.5,5.5) E18(-6.5,6.5) E19(-6.5,7.5) E20(-6.5,8.5) E21(-6.5,9.5) E22(-6.5,10.5) F1(-5.5,-10.5) F2(-5.5,-9.5) F3(-5.5,-8.5) F4(-5.5,-7.5) F5(-5.5,-6.5) F6(-5.5,-5.5) F7(-5.5,-4.5) F8(-5.5,-3.5) F9(-5.5,-2.5) F10(-5.5,-1.5) F11(-5.5,-0.5) F12(-5.5,0.5) F13(-5.5,1.5) F14(-5.5,2.5) F15(-5.5,3.5) F16(-5.5,4.5) F17(-5.5,5.5) F18(-5.5,6.5) F19(-5.5,7.5) F20(-5.5,8.5) F21(-5.5,9.5) F22(-5.5,10.5) G1(-4.5,-10.5) G2(-4.5,-9.5) G3(-4.5,-8.5) G4(-4.5,-7.5) G5(-4.5,-6.5) G6(-4.5,-5.5) G7(-4.5,-4.5) G8(-4.5,-3.5) G9(-4.5,-2.5) G10(-4.5,-1.5) G11(-4.5,-0.5) G12(-4.5,0.5) G13(-4.5,1.5) G14(-4.5,2.5) G15(-4.5,3.5) G16(-4.5,4.5) G17(-4.5,5.5) G18(-4.5,6.5) G19(-4.5,7.5) G20(-4.5,8.5) G21(-4.5,9.5) G22(-4.5,10.5) H1(-3.5,-10.5) H2(-3.5,-9.5) H3(-3.5,-8.5) H4(-3.5,-7.5) H5(-3.5,-6.5) H6(-3.5,-5.5) H7(-3.5,-4.5) H8(-3.5,-3.5) H9(-3.5,-2.5) H10(-3.5,-1.5) H11(-3.5,-0.5) H12(-3.5,0.5) H13(-3.5,1.5) H14(-3.5,2.5) H15(-3.5,3.5) H16(-3.5,4.5) H17(-3.5,5.5) H18(-3.5,6.5) H19(-3.5,7.5) H20(-3.5,8.5) H21(-3.5,9.5) H22(-3.5,10.5) J1(-2.5,-10.5) J2(-2.5,-9.5) J3(-2.5,-8.5) J4(-2.5,-7.5) J5(-2.5,-6.5) J6(-2.5,-5.5) J7(-2.5,-4.5) J8(-2.5,-3.5) J9(-2.5,-2.5) J10(-2.5,-1.5) J11(-2.5,-0.5) J12(-2.5,0.5) J13(-2.5,1.5) J14(-2.5,2.5) J15(-2.5,3.5) J16(-2.5,4.5) J17(-2.5,5.5) J18(-2.5,6.5) J19(-2.5,7.5) J20(-2.5,8.5) J21(-2.5,9.5) J22(-2.5,10.5) K1(-1.5,-10.5) K2(-1.5,-9.5) K3(-1.5,-8.5) K4(-1.5,-7.5) K5(-1.5,-6.5) K6(-1.5,-5.5) K7(-1.5,-4.5) K8(-1.5,-3.5) K9(-1.5,-2.5) K10(-1.5,-1.5) K11(-1.5,-0.5) K12(-1.5,0.5) K13(-1.5,1.5) K14(-1.5,2.5) K15(-1.5,3.5) K16(-1.5,4.5) K17(-1.5,5.5) K18(-1.5,6.5) K19(-1.5,7.5) K20(-1.5,8.5) K21(-1.5,9.5) K22(-1.5,10.5) L1(-0.5,-10.5) L2(-0.5,-9.5) L3(-0.5,-8.5) L4(-0.5,-7.5) L5(-0.5,-6.5) L6(-0.5,-5.5) L7(-0.5,-4.5) L8(-0.5,-3.5) L9(-0.5,-2.5) L10(-0.5,-1.5) L11(-0.5,-0.5) L12(-0.5,0.5) L13(-0.5,1.5) L14(-0.5,2.5) L15(-0.5,3.5) L16(-0.5,4.5) L17(-0.5,5.5) L18(-0.5,6.5) L19(-0.5,7.5) L20(-0.5,8.5) L21(-0.5,9.5) L22(-0.5,10.5) M1(0.5,-10.5) M2(0.5,-9.5) M3(0.5,-8.5) M4(0.5,-7.5) M5(0.5,-6.5) M6(0.5,-5.5) M7(0.5,-4.5) M8(0.5,-3.5) M9(0.5,-2.5) M10(0.5,-1.5) M11(0.5,-0.5) M12(0.5,0.5) M13(0.5,1.5) M14(0.5,2.5) M15(0.5,3.5) M16(0.5,4.5) M17(0.5,5.5) M18(0.5,6.5) M19(0.5,7.5) M20(0.5,8.5) M21(0.5,9.5) M22(0.5,10.5) N1(1.5,-10.5) N2(1.5,-9.5) N3(1.5,-8.5) N4(1.5,-7.5) N5(1.5,-6.5) N6(1.5,-5.5) N7(1.5,-4.5) N8(1.5,-3.5) N9(1.5,-2.5) N10(1.5,-1.5) N11(1.5,-0.5) N12(1.5,0.5) N13(1.5,1.5) N14(1.5,2.5) N15(1.5,3.5) N16(1.5,4.5) N17(1.5,5.5) N18(1.5,6.5) N19(1.5,7.5) N20(1.5,8.5) N21(1.5,9.5) N22(1.5,10.5) P1(2.5,-10.5) P2(2.5,-9.5) P3(2.5,-8.5) P4(2.5,-7.5) P5(2.5,-6.5) P6(2.5,-5.5) P7(2.5,-4.5) P8(2.5,-3.5) P9(2.5,-2.5) P10(2.5,-1.5) P11(2.5,-0.5) P12(2.5,0.5) P13(2.5,1.5) P14(2.5,2.5) P15(2.5,3.5) P16(2.5,4.5) P17(2.5,5.5) P18(2.5,6.5) P19(2.5,7.5) P20(2.5,8.5) P21(2.5,9.5) P22(2.5,10.5) R1(3.5,-10.5) R2(3.5,-9.5) R3(3.5,-8.5) R4(3.5,-7.5) R5(3.5,-6.5) R6(3.5,-5.5) R7(3.5,-4.5) R8(3.5,-3.5) R9(3.5,-2.5) R10(3.5,-1.5) R11(3.5,-0.5) R12(3.5,0.5) R13(3.5,1.5) R14(3.5,2.5) R15(3.5,3.5) R16(3.5,4.5) R17(3.5,5.5) R18(3.5,6.5) R19(3.5,7.5) R20(3.5,8.5) R21(3.5,9.5) R22(3.5,10.5) T1(4.5,-10.5) T2(4.5,-9.5) T3(4.5,-8.5) T4(4.5,-7.5) T5(4.5,-6.5) T6(4.5,-5.5) T7(4.5,-4.5) T8(4.5,-3.5) T9(4.5,-2.5) T10(4.5,-1.5) T11(4.5,-0.5) T12(4.5,0.5) T13(4.5,1.5) T14(4.5,2.5) T15(4.5,3.5) T16(4.5,4.5) T17(4.5,5.5) T18(4.5,6.5) T19(4.5,7.5) T20(4.5,8.5) T21(4.5,9.5) T22(4.5,10.5) U1(5.5,-10.5) U2(5.5,-9.5) U3(5.5,-8.5) U4(5.5,-7.5) U5(5.5,-6.5) U6(5.5,-5.5) U7(5.5,-4.5) U8(5.5,-3.5) U9(5.5,-2.5) U10(5.5,-1.5) U11(5.5,-0.5) U12(5.5,0.5) U13(5.5,1.5) U14(5.5,2.5) U15(5.5,3.5) U16(5.5,4.5) U17(5.5,5.5) U18(5.5,6.5) U19(5.5,7.5) U20(5.5,8.5) U21(5.5,9.5) U22(5.5,10.5) V1(6.5,-10.5) V2(6.5,-9.5) V3(6.5,-8.5) V4(6.5,-7.5) V5(6.5,-6.5) V6(6.5,-5.5) V7(6.5,-4.5) V8(6.5,-3.5) V9(6.5,-2.5) V10(6.5,-1.5) V11(6.5,-0.5) V12(6.5,0.5) V13(6.5,1.5) V14(6.5,2.5) V15(6.5,3.5) V16(6.5,4.5) V17(6.5,5.5) V18(6.5,6.5) V19(6.5,7.5) V20(6.5,8.5) V21(6.5,9.5) V22(6.5,10.5) W1(7.5,-10.5) W2(7.5,-9.5) W3(7.5,-8.5) W4(7.5,-7.5) W5(7.5,-6.5) W6(7.5,-5.5) W7(7.5,-4.5) W8(7.5,-3.5) W9(7.5,-2.5) W10(7.5,-1.5) W11(7.5,-0.5) W12(7.5,0.5) W13(7.5,1.5) W14(7.5,2.5) W15(7.5,3.5) W16(7.5,4.5) W17(7.5,5.5) W18(7.5,6.5) W19(7.5,7.5) W20(7.5,8.5) W21(7.5,9.5) W22(7.5,10.5) Y1(8.5,-10.5) Y2(8.5,-9.5) Y3(8.5,-8.5) Y4(8.5,-7.5) Y5(8.5,-6.5) Y6(8.5,-5.5) Y7(8.5,-4.5) Y8(8.5,-3.5) Y9(8.5,-2.5) Y10(8.5,-1.5) Y11(8.5,-0.5) Y12(8.5,0.5) Y13(8.5,1.5) Y14(8.5,2.5) Y15(8.5,3.5) Y16(8.5,4.5) Y17(8.5,5.5) Y18(8.5,6.5) Y19(8.5,7.5) Y20(8.5,8.5) Y21(8.5,9.5) Y22(8.5,10.5)
Top Overlay:
  circle w0.4: c-11.2,-12.3 r0.2
  region: -11.5,-10.5 -10.5,-11.5 -11.5,-11.5
  lines w0.2: -11.5,-10.5 -10.5,-11.5 ; -11.5,-11.5 -11.5,11.5 11.5,11.5 11.5,-11.5 -11.5,-11.5
Mechanical 13:
  lines w0.1: -11.5,-11.5 -11.5,11.5 11.5,11.5 11.5,-11.5 -11.5,-11.5

## LFBGA100 [mm] "BGA, 100-Leads, Body 10x10mm, Pitch 0.8mm"
height 1.7
pads (100):
  round 0.45 smd: A1(-3.6,3.6) A2(-2.8,3.6) A3(-2,3.6) A4(-1.2,3.6) A5(-0.4,3.6) A6(0.4,3.6) A7(1.2,3.6) A8(2,3.6) A9(2.8,3.6) A10(3.6,3.6) B1(-3.6,2.8) B2(-2.8,2.8) B3(-2,2.8) B4(-1.2,2.8) B5(-0.4,2.8) B6(0.4,2.8) B7(1.2,2.8) B8(2,2.8) B9(2.8,2.8) B10(3.6,2.8) C1(-3.6,2) C2(-2.8,2) C3(-2,2) C4(-1.2,2) C5(-0.4,2) C6(0.4,2) C7(1.2,2) C8(2,2) C9(2.8,2) C10(3.6,2) D1(-3.6,1.2) D2(-2.8,1.2) D3(-2,1.2) D4(-1.2,1.2) D5(-0.4,1.2) D6(0.4,1.2) D7(1.2,1.2) D8(2,1.2) D9(2.8,1.2) D10(3.6,1.2) E1(-3.6,0.4) E2(-2.8,0.4) E3(-2,0.4) E4(-1.2,0.4) E5(-0.4,0.4) E6(0.4,0.4) E7(1.2,0.4) E8(2,0.4) E9(2.8,0.4) E10(3.6,0.4) F1(-3.6,-0.4) F2(-2.8,-0.4) F3(-2,-0.4) F4(-1.2,-0.4) F5(-0.4,-0.4) F6(0.4,-0.4) F7(1.2,-0.4) F8(2,-0.4) F9(2.8,-0.4) F10(3.6,-0.4) G1(-3.6,-1.2) G2(-2.8,-1.2) G3(-2,-1.2) G4(-1.2,-1.2) G5(-0.4,-1.2) G6(0.4,-1.2) G7(1.2,-1.2) G8(2,-1.2) G9(2.8,-1.2) G10(3.6,-1.2) H1(-3.6,-2) H2(-2.8,-2) H3(-2,-2) H4(-1.2,-2) H5(-0.4,-2) H6(0.4,-2) H7(1.2,-2) H8(2,-2) H9(2.8,-2) H10(3.6,-2) J1(-3.6,-2.8) J2(-2.8,-2.8) J3(-2,-2.8) J4(-1.2,-2.8) J5(-0.4,-2.8) J6(0.4,-2.8) J7(1.2,-2.8) J8(2,-2.8) J9(2.8,-2.8) J10(3.6,-2.8) K1(-3.6,-3.6) K2(-2.8,-3.6) K3(-2,-3.6) K4(-1.2,-3.6) K5(-0.4,-3.6) K6(0.4,-3.6) K7(1.2,-3.6) K8(2,-3.6) K9(2.8,-3.6) K10(3.6,-3.6)
Top Overlay:
  circle w0.25: c-5.65,4.85 r0.125
  region: -4,5 -5,4 -5,5
  lines w0.2: -5,4 -4,5 ; -5,-5 -5,5 5,5 5,-5 -5,-5
Mechanical 13:
  lines w0.1: -5,-5 -5,5 5,5 5,-5 -5,-5
Mechanical 15:
  lines w0.05: -6,-6 -6,6 6,6 6,-6 -6,-6
  lines w0.1: -0.5,0 0.5,0 ; 0,-0.5 0,0.5
3D body: height 1.7, standoff 0, extent -5,-5 5,5

## LFBGA144 [mm] "BGA, 144-Leads, Body 10x10mm, Pitch 0.8mm"
height 1.7
pads (144):
  round 0.35 smd: A1(-4.4,4.4) A2(-3.6,4.4) A3(-2.8,4.4) A4(-2,4.4) A5(-1.2,4.4) A6(-0.4,4.4) A7(0.4,4.4) A8(1.2,4.4) A9(2,4.4) A10(2.8,4.4) A11(3.6,4.4) A12(4.4,4.4) B1(-4.4,3.6) B2(-3.6,3.6) B3(-2.8,3.6) B4(-2,3.6) B5(-1.2,3.6) B6(-0.4,3.6) B7(0.4,3.6) B8(1.2,3.6) B9(2,3.6) B10(2.8,3.6) B11(3.6,3.6) B12(4.4,3.6) C1(-4.4,2.8) C2(-3.6,2.8) C3(-2.8,2.8) C4(-2,2.8) C5(-1.2,2.8) C6(-0.4,2.8) C7(0.4,2.8) C8(1.2,2.8) C9(2,2.8) C10(2.8,2.8) C11(3.6,2.8) C12(4.4,2.8) D1(-4.4,2) D2(-3.6,2) D3(-2.8,2) D4(-2,2) D5(-1.2,2) D6(-0.4,2) D7(0.4,2) D8(1.2,2) D9(2,2) D10(2.8,2) D11(3.6,2) D12(4.4,2) E1(-4.4,1.2) E2(-3.6,1.2) E3(-2.8,1.2) E4(-2,1.2) E5(-1.2,1.2) E6(-0.4,1.2) E7(0.4,1.2) E8(1.2,1.2) E9(2,1.2) E10(2.8,1.2) E11(3.6,1.2) E12(4.4,1.2) F1(-4.4,0.4) F2(-3.6,0.4) F3(-2.8,0.4) F4(-2,0.4) F5(-1.2,0.4) F6(-0.4,0.4) F7(0.4,0.4) F8(1.2,0.4) F9(2,0.4) F10(2.8,0.4) F11(3.6,0.4) F12(4.4,0.4) G1(-4.4,-0.4) G2(-3.6,-0.4) G3(-2.8,-0.4) G4(-2,-0.4) G5(-1.2,-0.4) G6(-0.4,-0.4) G7(0.4,-0.4) G8(1.2,-0.4) G9(2,-0.4) G10(2.8,-0.4) G11(3.6,-0.4) G12(4.4,-0.4) H1(-4.4,-1.2) H2(-3.6,-1.2) H3(-2.8,-1.2) H4(-2,-1.2) H5(-1.2,-1.2) H6(-0.4,-1.2) H7(0.4,-1.2) H8(1.2,-1.2) H9(2,-1.2) H10(2.8,-1.2) H11(3.6,-1.2) H12(4.4,-1.2) J1(-4.4,-2) J2(-3.6,-2) J3(-2.8,-2) J4(-2,-2) J5(-1.2,-2) J6(-0.4,-2) J7(0.4,-2) J8(1.2,-2) J9(2,-2) J10(2.8,-2) J11(3.6,-2) J12(4.4,-2) K1(-4.4,-2.8) K2(-3.6,-2.8) K3(-2.8,-2.8) K4(-2,-2.8) K5(-1.2,-2.8) K6(-0.4,-2.8) K7(0.4,-2.8) K8(1.2,-2.8) K9(2,-2.8) K10(2.8,-2.8) K11(3.6,-2.8) K12(4.4,-2.8) L1(-4.4,-3.6) L2(-3.6,-3.6) L3(-2.8,-3.6) L4(-2,-3.6) L5(-1.2,-3.6) L6(-0.4,-3.6) L7(0.4,-3.6) L8(1.2,-3.6) L9(2,-3.6) L10(2.8,-3.6) L11(3.6,-3.6) L12(4.4,-3.6) M1(-4.4,-4.4) M2(-3.6,-4.4) M3(-2.8,-4.4) M4(-2,-4.4) M5(-1.2,-4.4) M6(-0.4,-4.4) M7(0.4,-4.4) M8(1.2,-4.4) M9(2,-4.4) M10(2.8,-4.4) M11(3.6,-4.4) M12(4.4,-4.4)
Top Overlay:
  circle w0.25: c-5.65,4.85 r0.125
  region: -4.684,5 -5,4.684 -5,5
  lines w0.2: -5,4.684 -4.684,5 ; -5,-5 -5,5 5,5 5,-5 -5,-5
Mechanical 13:
  lines w0.1: -5,-5 -5,5 5,5 5,-5 -5,-5
Mechanical 15:
  lines w0.05: -6,-6 -6,6 6,6 6,-6 -6,-6
  lines w0.1: -0.5,0 0.5,0 ; 0,-0.5 0,0.5
3D body: height 1.7, standoff 0, extent -5,-5 5,5

## TFBGA64 [mm] "BGA, 64-Leads, Body 5x5mm, Pitch 0.5mm"
height 1.2
pads (64):
  round 0.25 smd: A1(-1.75,1.75) A2(-1.25,1.75) A3(-0.75,1.75) A4(-0.25,1.75) A5(0.25,1.75) A6(0.75,1.75) A7(1.25,1.75) A8(1.75,1.75) B1(-1.75,1.25) B2(-1.25,1.25) B3(-0.75,1.25) B4(-0.25,1.25) B5(0.25,1.25) B6(0.75,1.25) B7(1.25,1.25) B8(1.75,1.25) C1(-1.75,0.75) C2(-1.25,0.75) C3(-0.75,0.75) C4(-0.25,0.75) C5(0.25,0.75) C6(0.75,0.75) C7(1.25,0.75) C8(1.75,0.75) D1(-1.75,0.25) D2(-1.25,0.25) D3(-0.75,0.25) D4(-0.25,0.25) D5(0.25,0.25) D6(0.75,0.25) D7(1.25,0.25) D8(1.75,0.25) E1(-1.75,-0.25) E2(-1.25,-0.25) E3(-0.75,-0.25) E4(-0.25,-0.25) E5(0.25,-0.25) E6(0.75,-0.25) E7(1.25,-0.25) E8(1.75,-0.25) F1(-1.75,-0.75) F2(-1.25,-0.75) F3(-0.75,-0.75) F4(-0.25,-0.75) F5(0.25,-0.75) F6(0.75,-0.75) F7(1.25,-0.75) F8(1.75,-0.75) G1(-1.75,-1.25) G2(-1.25,-1.25) G3(-0.75,-1.25) G4(-0.25,-1.25) G5(0.25,-1.25) G6(0.75,-1.25) G7(1.25,-1.25) G8(1.75,-1.25) H1(-1.75,-1.75) H2(-1.25,-1.75) H3(-0.75,-1.75) H4(-0.25,-1.75) H5(0.25,-1.75) H6(0.75,-1.75) H7(1.25,-1.75) H8(1.75,-1.75)
Top Overlay:
  circle w0.25: c-3.15,2.35 r0.125
  region: -1.742,2.5 -2.5,1.742 -2.5,2.5
  lines w0.2: -2.5,1.742 -1.742,2.5 ; -2.5,-2.5 -2.5,2.5 2.5,2.5 2.5,-2.5 -2.5,-2.5
Mechanical 13:
  lines w0.1: -2.5,-2.5 -2.5,2.5 2.5,2.5 2.5,-2.5 -2.5,-2.5
Mechanical 15:
  lines w0.05: -3.5,-3.5 -3.5,3.5 3.5,3.5 3.5,-3.5 -3.5,-3.5
  lines w0.1: -0.5,0 0.5,0 ; 0,-0.5 0,0.5
3D body: height 1.2, standoff 0, extent -2.5,-2.5 2.5,2.5